# Altium schematic symbol library Standardbauteile (1).SchLib: 104 symbols
Pins are listed as number, name and electrical type; pins without a type are passive.

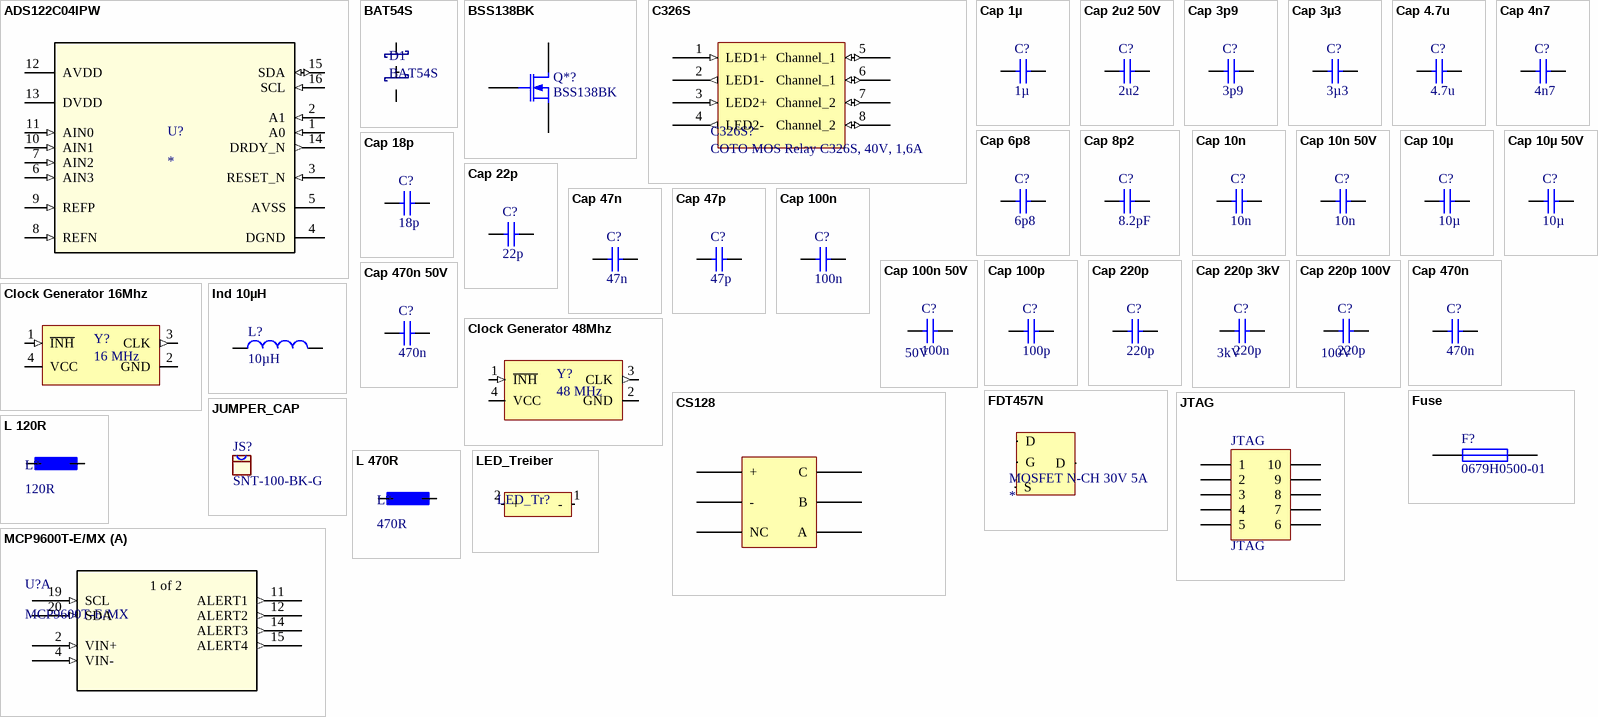
[diagram p0: symbols ADS122C04IPW to MCP9600T-E/MX]

## ADS122C04IPW
designator U?
No Description Available; PartNumber: ADS122C04IPWR; Manufacturer: Texas Instruments; RefDes: RefDes; Type: DEV; Value: Value; Copyright: Copyright (C) 2018 Accelerated Designs. All rights reserved
footprint ADS122C04
pins: 1 A0 (in), 2 A1 (in), 3 RESET_N (in), 4 DGND (power), 5 AVSS (power), 6 AIN3 (in), 7 AIN2 (in), 8 REFN (in), 9 REFP (in), 10 AIN1 (in), 11 AIN0 (in), 12 AVDD (power), 13 DVDD (power), 14 DRDY_N (out), 15 SDA (io), 16 SCL (in)

## BAT54S
designator D1
Farnell: 1612328
footprint SOT-23 3-Pin
pins: 1, 2, 3

## BSS138BK
designator Q*?
N-Channel; Manufacturer: Microchip; OC_FARNELL: 2053833; Supplier 1: Farnell; Supplier Part Number 1: 2053833
footprint SOT-23 3-Pin
pins: 1 G, 2 S, 3 D

## C326S
designator C326S?, comment COTO MOS Relay C326S, 40V, 1,6A
ComponentLink1Description: CotoMOS_Company; ComponentLink1URL: https://cotorelay.com/product/c226s_c326s_series_mosfetrelay/; ComponentLink2Description: Mouser; ComponentLink2URL: https://www.mouser.de/ProductDetail/Coto-Technology/C326S?qs=sGAEpiMZZMtF2lsQzIlof2iLd9el4552
footprint C326S (C326S CotoMos)
pins: 1 LED1+ (in), 2 LED1- (out), 3 LED2+ (in), 4 LED2- (out), 5 Channel_1 (io), 6 Channel_1 (io), 7 Channel_2 (io), 8 Channel_2 (io)

## Cap 1µ
designator C?, comment 1µ
Keramikvielschichtkondensator, SMD, Baureihe MC, ± 20%; Manufacturer: Multicomp; OC_FARNELL: 1759409; Value: 1µ; PackageReference: 0603
footprint CAPC0603(1608)55_N (Chip Capacitor, Body 1.6x0.8mm, Height 0.55mm, IPC Medium Density)
pins: 1, 2
1 alternate drawing of the same symbol

## Cap 2u2 50V
designator C?, comment 2u2
GRM21BR61H225KA73L -  Keramikvielschichtkondensator, SMD, 0805 [Metrisch 2012], 2.2 µF, 50 V, ± 10%, X5R, Baureihe GRM; Manufacturer: Murata; OC_FARNELL: 1845751; Value: 2u2; PackageReference: 0805
footprint CAPC0805(2012)75_N (Chip Capacitor, Body 2.0x1.2mm, Height 0.75mm, IPC Medium Density)
pins: 1, 2
1 alternate drawing of the same symbol

## Cap 3p9
designator C?, comment 3p9
Keramikvielschichtkondensator, SMD, Baureihe MC, ± 20%; Manufacturer: Multicomp; OC_FARNELL: 2332622; Value: 3p9; PackageReference: 0603
footprint CAPC0603(1608)55_N (Chip Capacitor, Body 1.6x0.8mm, Height 0.55mm, IPC Medium Density)
pins: 1, 2
1 alternate drawing of the same symbol

## Cap 3µ3
designator C?, comment 3µ3
Keramikvielschichtkondensator, SMD, Baureihe MC, ± 20%; Manufacturer: Multicomp; OC_FARNELL: 2320817; Value: 3µ3; PackageReference: 0603
footprint CAPC0603(1608)55_N (Chip Capacitor, Body 1.6x0.8mm, Height 0.55mm, IPC Medium Density)
pins: 1, 2
1 alternate drawing of the same symbol

## Cap 4.7u
designator C?, comment 4.7u
MULTICOMP  MC0603X475K100CT  Keramikvielschichtkondensator, SMD, 0603 [Metrisch 1608], 4.7 µF, 10 V, ± 10%, X5R, Baureihe MC; Manufacturer: Multicomp; OC_FARNELL: 2320818; Value: 4.7u; PackageReference: 0603
footprint CAPC0603(1608)55_N (Chip Capacitor, Body 1.6x0.8mm, Height 0.55mm, IPC Medium Density)
pins: 1, 2
1 alternate drawing of the same symbol

## Cap 4n7
designator C?, comment 4n7
Keramikvielschichtkondensator, SMD, Baureihe MC, ± 20%; Manufacturer: Multicomp; OC_FARNELL: 1759098; Value: 4n7; PackageReference: 0603
footprint CAPC0603(1608)55_N (Chip Capacitor, Body 1.6x0.8mm, Height 0.55mm, IPC Medium Density)
pins: 1, 2
1 alternate drawing of the same symbol

## Cap 6p8
designator C?, comment 6p8
Keramikvielschichtkondensator, SMD, Baureihe MC, ± 20%; Manufacturer: Multicomp; OC_FARNELL: 1856099; Value: 6p8; PackageReference: 0603
footprint CAPC0603(1608)55_N (Chip Capacitor, Body 1.6x0.8mm, Height 0.55mm, IPC Medium Density)
pins: 1, 2
1 alternate drawing of the same symbol

## Cap 8p2
designator C?, comment 8.2pF
Keramikvielschichtkondensator, SMD, Baureihe MC, ± 20%; Manufacturer: Murata; Mouser: 81-GCQ1555C1H8R2WB1D; Value: 8.2pF; PackageReference: 0603
footprint CAPC0603(1608)55_N (Chip Capacitor, Body 1.6x0.8mm, Height 0.55mm, IPC Medium Density)
pins: 1, 2
1 alternate drawing of the same symbol

## Cap 10n
designator C?, comment 10n
Keramikvielschichtkondensator, SMD, Baureihe MC, ± 20%; Manufacturer: Multicomp; OC_FARNELL: 1759022; Value: 10n; PackageReference: 0603
footprint CAPC0603(1608)55_N (Chip Capacitor, Body 1.6x0.8mm, Height 0.55mm, IPC Medium Density)
pins: 1, 2
1 alternate drawing of the same symbol

## Cap 10n 50V
designator C?, comment 10n
MC0603B103K500CT -  Keramikvielschichtkondensator, SMD, 0603 [Metrisch 1608], 0.01 µF, 50 V, ± 10%, X7R, Baureihe MC; Manufacturer: Multicomp; OC_FARNELL: 1759102; Value: 10n; PackageReference: 0603
footprint CAPC0603(1608)55_N (Chip Capacitor, Body 1.6x0.8mm, Height 0.55mm, IPC Medium Density)
pins: 1, 2
1 alternate drawing of the same symbol

## Cap 10µ
designator C?, comment 10µ
Keramikvielschichtkondensator, SMD, Baureihe MC, ± 20%; Manufacturer: Multicomp; OC_FARNELL: 1759393; Value: 10µ; PackageReference: 0603
footprint CAPC0603(1608)55_N (Chip Capacitor, Body 1.6x0.8mm, Height 0.55mm, IPC Medium Density)
pins: 1, 2
1 alternate drawing of the same symbol

## Cap 10µ 50V
designator C?, comment 10µ
GRM31CR61H106KA12L -  Keramikvielschichtkondensator, SMD, 1206 [Metrisch 3216], 10 µF, 50 V, ± 10%, X5R, Baureihe GRM; Manufacturer: Murata; OC_FARNELL: 1845762; Value: 10µ; PackageReference: 1206
footprint CAPC1206(3216)170_N (Chip Capacitor, Body 3.2x1.6mm, Height 1.7mm, IPC Medium Density)
pins: 1, 2
1 alternate drawing of the same symbol

## Cap 18p
designator C?, comment 18p
Keramikvielschichtkondensator, SMD, Baureihe MC, ± 20%; Manufacturer: Multicomp; OC_FARNELL: 1759056; Value: 18p; PackageReference: 0603
footprint CAPC0603(1608)55_N (Chip Capacitor, Body 1.6x0.8mm, Height 0.55mm, IPC Medium Density)
pins: 1, 2
1 alternate drawing of the same symbol

## Cap 22p
designator C?, comment 22p
Keramikvielschichtkondensator, SMD, Baureihe MC, ± 20%; Manufacturer: Multicomp; OC_FARNELL: 2309012; Value: 22p; PackageReference: 0603
footprint CAPC0603(1608)55_N (Chip Capacitor, Body 1.6x0.8mm, Height 0.55mm, IPC Medium Density)
pins: 1, 2
1 alternate drawing of the same symbol

## Cap 47n
designator C?, comment 47n
Keramikvielschichtkondensator, SMD, Baureihe MC, ± 20%; Manufacturer: Multicomp; OC_FARNELL: 1759116; Value: 47n; PackageReference: 0603
footprint CAPC0603(1608)55_N (Chip Capacitor, Body 1.6x0.8mm, Height 0.55mm, IPC Medium Density)
pins: 1, 2
1 alternate drawing of the same symbol

## Cap 47p
designator C?, comment 47p
Keramikvielschichtkondensator, SMD, Baureihe MC, ± 20%; Manufacturer: Multicomp; OC_FARNELL: 1759062; Value: 47p; PackageReference: 0603
footprint CAPC0603(1608)55_N (Chip Capacitor, Body 1.6x0.8mm, Height 0.55mm, IPC Medium Density)
pins: 1, 2
1 alternate drawing of the same symbol

## Cap 100n
designator C?, comment 100n
Keramikvielschichtkondensator, SMD, Baureihe MC, ± 20%; Manufacturer: Multicomp; OC_FARNELL: 1759038; Value: 100n; PackageReference: 0603
footprint CAPC0603(1608)55_N (Chip Capacitor, Body 1.6x0.8mm, Height 0.55mm, IPC Medium Density)
pins: 1, 2
1 alternate drawing of the same symbol

## Cap 100n 50V
designator C?, comment 100n  Voltage: 50V
Keramikvielschichtkondensator, SMD, Baureihe MC, ± 20%; Manufacturer: Multicomp; OC_FARNELL: 1759122; Value: 100n; PackageReference: 0603
footprint CAPC0603(1608)55_N (Chip Capacitor, Body 1.6x0.8mm, Height 0.55mm, IPC Medium Density)
pins: 1, 2
1 alternate drawing of the same symbol

## Cap 100p
designator C?, comment 100p
Keramikvielschichtkondensator, SMD, Baureihe MC, ± 20%; Manufacturer: Multicomp; OC_FARNELL: 1759066; Value: 100p; PackageReference: 0603
footprint CAPC0603(1608)55_N (Chip Capacitor, Body 1.6x0.8mm, Height 0.55mm, IPC Medium Density)
pins: 1, 2
1 alternate drawing of the same symbol

## Cap 220p
designator C?, comment 220p
Keramikvielschichtkondensator, SMD, Baureihe MC, ± 20%; Manufacturer: Multicomp; OC_FARNELL: 1759070; Value: 220p; PackageReference: 0603
footprint CAPC0603(1608)55_N (Chip Capacitor, Body 1.6x0.8mm, Height 0.55mm, IPC Medium Density)
pins: 1, 2
1 alternate drawing of the same symbol

## Cap 220p 3kV
designator C?, comment 220p  Voltage: 3kV
C4532C0G3F221K200KA -  Keramikvielschichtkondensator, SMD, 1812 [Metrisch 4532], 220 pF, 3 kV, ± 10%, C0G / NP0; Manufacturer: TDK; OC_FARNELL: C4532C0G3F221K200KA -  Keramikvielschichtkondensator, SMD, 1812 [Metrisch 4532], 220 pF, 3 kV, ± 10%, C0G / NP0; Value: 220p; PackageReference: 1812
footprint RESC1812(4532)_N (Chip Resistor, Body 4.5x3.2mm, IPC Medium Density)
pins: 1, 2
1 alternate drawing of the same symbol

## Cap 220p 100V
designator C?, comment 220p  Voltage: 100V
Keramikvielschichtkondensator, SMD, Baureihe MC, ± 20%; Manufacturer: Multicomp; OC_FARNELL: 1759131; Value: 220p; PackageReference: 0603
footprint CAPC0603(1608)55_N (Chip Capacitor, Body 1.6x0.8mm, Height 0.55mm, IPC Medium Density)
pins: 1, 2
1 alternate drawing of the same symbol

## Cap 470n
designator C?, comment 470n
Keramikvielschichtkondensator, SMD, Baureihe MC, ± 20%; Manufacturer: Multicomp; OC_FARNELL: 1759405; Value: 470n; PackageReference: 0603
footprint CAPC0603(1608)55_N (Chip Capacitor, Body 1.6x0.8mm, Height 0.55mm, IPC Medium Density)
pins: 1, 2
1 alternate drawing of the same symbol

## Cap 470n 50V
designator C?, comment 470n
MC0805B474K500CT -  Keramikvielschichtkondensator, SMD, 0805 [Metrisch 2012], 0.47 µF, 50 V, ± 10%, X7R, Baureihe MC; Manufacturer: Multicomp; OC_FARNELL: 2320847; Value: 470n; PackageReference: 0805
footprint CAPC0805(2012)75_N (Chip Capacitor, Body 2.0x1.2mm, Height 0.75mm, IPC Medium Density)
pins: 1, 2
1 alternate drawing of the same symbol

## Clock Generator 16Mhz
designator Y?, comment 16 MHz
KC5032A16.0000CM0E00  Clock-Standardoszillatoren 16.0000MHZ 1.8/2.5/3.3/5V; OC_Mouser: 581-KC5032A48.CMGE; ComponentLink1Description: Mouser; ComponentLink1URL: https://www.mouser.de/ProductDetail/Kyocera-Electronic-Components/KC5032A160000CM0E00?qs=sGAEpiMZZMt8zWNA7msRCk7Aw7TtSSRkg6%252bP7KN1ykU%3d
footprint 2012 [5032] (4-Pad Oscillator)
pins: 1 ~{INH} (in), 2 GND (power), 3 CLK (out), 4 VCC (power)

## Clock Generator 48Mhz
designator Y?, comment 48 MHz
KC5032A48.0000CMGE00 Clock-Standardoszillatoren 48.0000MHZ 1.8/2.5/3.3/5V; OC_Mouser: 581-KC5032A48.CMGE; ComponentLink1Description: Mouser; ComponentLink1URL: https://www.mouser.de/ProductDetail/Kyocera-Electronic-Components/KC5032A480000CMGE00?qs=sGAEpiMZZMt8zWNA7msRCrRuiPJbmrePLb5CHgCNDxV1n%2flQRhhCGg%3d%3d
footprint 2012 [5032] (4-Pad Oscillator)
pins: 1 ~{INH} (in), 2 GND (power), 3 CLK (out), 4 VCC (power)

## CS128
designator K?, comment 40V 4.5A
Solid State Relays - PCB Mount PCB Mount 500mW 40v 4.5A 1FRM A SMD 6Pin; LatestRevisionDate: 17-Jul-2002; LatestRevisionNote: Re-released for DXP Platform.; Publisher: Altium Limited; OC_Mouser: 816-CS128
footprint CS128 SMD (Footprint not found)
signal-integrity model Connector
pins: 1 +, 2 -, 3 NC, 4 A, 5 B, 6 C

## FDT457N
designator MOSFET N-CH 30V 5A
MOSFET N-CH 30V 5A SOT-223
footprint NXP SOT-223 (SOT223, 4-Leads, Body 6.50x7.00mm (avg), Pitch 2.30mm, IPC Medium Density)
pins: 1 G , 2 D, 3 S, 4 D

## Fuse
designator F?, comment 0679H0500-01
500mA 350 VAC 72 VCD; Hersteller: Bel; Produkt: Surface Mount Ceramic Fuse; Sicherungsart: Fast Blow; Nennspannung AC: 350 VAC; Nennspannung DC:: 72 VDC; Unterbrechungsrate: 50 A at 350 VAC, 100 A at 72 VDC; Länge: 6.1000 mm; Betriebstemperaturbereich: - 55 C to + 125 C; Widerstand:: 240 mOhms; Typ: Fast Acting Ceramic Fuse; Breite: 2.5400 mm; Nennstrom: 500mA; Datasheet: http://www.mouser.com/ds/2/643/0679H_Jan_2017-1131342.pdf
simulation model FUSE (Spice Subcircuit)
footprint fuse (Sicherungen zur Aufbaumontage 500mA 350 VAC 72 VCD)
pins: 1, 2

## Ind 10µH
designator L?, comment 10µH
Leistungsinduktivität zur Oberflächenm., Baureihe WE-LQ, 10 µH, 320 mA, 850 mA, Ungeschirmt; Manufacturer: WURTH ELEKTRONIK; Series Resistance: 0.65R; PackageReference: 0402-A; PackageDescription: Chip Inductor; OC_Farnell: 1800387; Value: 10µH
footprint 0603 (Chip Inductor, Body 0.6x0.3mm, IPC High Density)
simulation model INDUCTOR (Inductor)
signal-integrity model Inductor
pins: 1, 2

## JTAG
designator JTAG
Header, 5-Pin, Dual row; LatestRevisionDate: 17-Jul-2002; LatestRevisionNote: Re-released for DXP Platform.; Publisher: Altium Limited
signal-integrity model Connector
footprint M50-3600542
pins: 1, 2, 3, 4, 5, 6, 7, 8, 9, 10

## JUMPER_CAP
designator JS?  value SNT-100-BK-G
Jumper cap for 2.54mm pinheader; PartGroup: Mechanical devices,Mounting accessories,Other; Manufacturer: SAMTEC; AN: A08-0543; MPN: SNT-100-BK-G
footprint AP8-00525

## L 120R
designator L?, comment 120R
Ferrite Perle; Manufacturer: Murata; PackageReference: 0603; OC_FARNELL: 1515738; Value: 120R
footprint CAPC0603(1608)55_N (Chip Capacitor, Body 1.6x0.8mm, Height 0.55mm, IPC Medium Density)
pins: 1, 2
1 alternate drawing of the same symbol

## L 470R
designator L?, comment 470R
Ferrite Perle; Manufacturer: Murata; PackageReference: 0603; OC_FARNELL: 1515745; Value: 470R
footprint CAPC0603(1608)55_N (Chip Capacitor, Body 1.6x0.8mm, Height 0.55mm, IPC Medium Density)
pins: 1, 2
1 alternate drawing of the same symbol

## LED_Treiber
designator LED_Tr?
LED_Treiber for 20mA and 30mA; ComponentLink1Description: Farnell_20mA; ComponentLink1URL: https://de.farnell.com/on-semiconductor/nsi45020t1g/led-treiber-sod-123/dp/2535067?st=NSI450; ComponentLink2Description: Farnell_30mA; ComponentLink2URL: https://de.farnell.com/on-semiconductor/nsi45030at1g/led-treiber-45v-0-03a-sod123/dp/1794976?st=NSI450
footprint SOD-123
pins: 1 -, 2 +

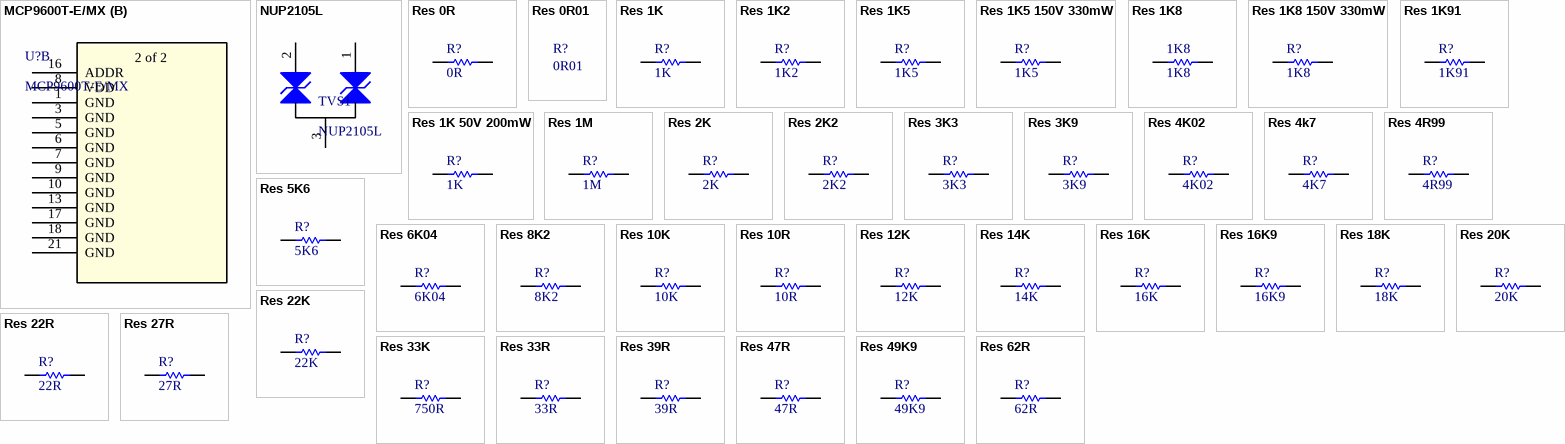
[diagram p1: symbols MCP9600T-E/MX to Res 62R]

## MCP9600T-E/MX
designator U?
No Description Available; SourceLibrary: Microchip_2020-07-10; Built_By: EMA_Cory; Vendor: Microchip; Datasheet: https://ww1.microchip.com/downloads/en/DeviceDoc/MCP960X-L0X-RL0X-Data-Sheet-20005426F.pdf; Copyright: Copyright (C) 2018 Accelerated Designs. All rights reserved; Manufacturer_Part_Number: MCP9600T-E/MX; RefDes: RefDes; Type: DEV
footprint MCP9600
part A pins: 2 VIN+ (in), 4 VIN- (in), 11 ALERT1 (out), 12 ALERT2 (out), 14 ALERT3 (out), 15 ALERT4 (out), 19 SCL (in), 20 SDA (in)
part B pins: 1 GND, 3 GND, 5 GND, 6 GND, 7 GND, 8 VDD (power), 9 GND, 10 GND, 13 GND, 16 ADDR (power), 17 GND, 18 GND, 21 GND
part A text: 1 of 2
part B text: 2 of 2

## NUP2105L
designator TVS1
Dual Bidirectional Voltage Suppressor 350W Peak
footprint SOT-23 3-Pin
pins: 1 A1, 2 A2, 3 A3

## Res 0R
designator R?, comment 0R
Chipwiderstand, SMD, Baureihe MC, 1%; Manufacturer: Multicomp; PackageReference: 0603; Value: 0R; OC_FARNELL: 9331662
footprint RESC0603(1608)_N (Chip Resistor, Body 1.6x0.8mm, IPC Medium Density)
pins: 1, 2
1 alternate drawing of the same symbol

## Res 0R01
designator R?, comment 0R01
Chipwiderstand, Oberflächenmontage, Dickschicht, 0.01 ohm, 50 V, 0603 [Metrisch 1608], 100 mW, ± 1%; Manufacturer: YAEGO; PackageReference: 0603; OC_Farnell: 8067767; Value: 0R01
footprint RESC0603(1608)_N (Chip Resistor, Body 1.6x0.8mm, IPC Medium Density)

## Res 1K
designator R?, comment 1K
Chipwiderstand, SMD, Baureihe MC, 1%; Manufacturer: Multicomp; PackageReference: 0603; Value: 1K; OC_FARNELL: 9330380
footprint RESC0603(1608)_N (Chip Resistor, Body 1.6x0.8mm, IPC Medium Density)
pins: 1, 2
1 alternate drawing of the same symbol

## Res 1K2
designator R?, comment 1K2
Chipwiderstand, SMD, Baureihe MC, 1%; Manufacturer: Multicomp; PackageReference: 0603; Value: 1K2; OC_FARNELL: 9330500
footprint RESC0603(1608)_N (Chip Resistor, Body 1.6x0.8mm, IPC Medium Density)
pins: 1, 2
1 alternate drawing of the same symbol

## Res 1K5
designator R?, comment 1K5
Chipwiderstand, SMD, Baureihe MC, 1%; Manufacturer: Multicomp; PackageReference: 0603; Value: 1K5; OC_FARNELL: 9330607
footprint RESC0603(1608)_N (Chip Resistor, Body 1.6x0.8mm, IPC Medium Density)
pins: 1, 2
1 alternate drawing of the same symbol

## Res 1K5 150V 330mW
designator R?, comment 1K5
CRGH0603F1K5 -  Chipwiderstand,  CRGH0805J1K5 -  Chipwiderstand, Oberflächenmontage, Dickschicht, 1.5 kohm, 150 V, 0805 [Metrisch 2012], 330 mW; Manufacturer: TE Connectivity; PackageReference: 0805; Value: 1K5; OC_FARNELL: 2331798
footprint RESC0805(2012)_N (Chip Resistor, Body 2.0x1.3mm, IPC Medium Density)
pins: 1, 2
1 alternate drawing of the same symbol

## Res 1K8
designator 1K8, comment 1K8
Chipwiderstand, SMD, Baureihe MC, 1%; Manufacturer: Multicomp; PackageReference: 0603; Value: 1K8; OC_FARNELL: 9330712
footprint RESC0603(1608)_N (Chip Resistor, Body 1.6x0.8mm, IPC Medium Density)
pins: 1, 2
1 alternate drawing of the same symbol

## Res 1K8 150V 330mW
designator R?, comment 1K8
CRGH0805J1K8 -  Chipwiderstand, Oberflächenmontage, Dickschicht, 1.8 kohm, 150 V, 0805 [Metrisch 2012], 330 mW; Manufacturer: TE Connectivity; PackageReference: 0805; Value: 1K8; OC_FARNELL: 2331799
footprint RESC0805(2012)_N (Chip Resistor, Body 2.0x1.3mm, IPC Medium Density)
pins: 1, 2
1 alternate drawing of the same symbol

## Res 1K91
designator R?, comment 1K91
ERJ3EKF1911V -  Chipwiderstand, Oberflächenmontage, Dickschicht, 1.91 kohm, 75 V, 0603 [Metrisch 1608], 100 mW; Manufacturer: Panasonic; PackageReference: 0603; Value: 1K91; OC_FARNELL: 2303163
footprint RESC0603(1608)_N (Chip Resistor, Body 1.6x0.8mm, IPC Medium Density)
pins: 1, 2
1 alternate drawing of the same symbol

## Res 1K 50V 200mW
designator R?, comment 1K
CRGH0603J1K0 -  Chipwiderstand, Oberflächenmontage, Dickschicht, 1 kohm, 50 V, 0603 [Metrisch 1608], 200 mW, ± 5%; Manufacturer: TE Connectivity; PackageReference: 0603; Value: 1K; OC_FARNELL: 2331727
footprint RESC0603(1608)_N (Chip Resistor, Body 1.6x0.8mm, IPC Medium Density)
pins: 1, 2
1 alternate drawing of the same symbol

## Res 1M
designator R?, comment 1M
Chipwiderstand, SMD, Baureihe MC, 1%; Manufacturer: Multicomp; PackageReference: 0603; Value: 1M; OC_FARNELL: 9330410
footprint RESC0603(1608)_N (Chip Resistor, Body 1.6x0.8mm, IPC Medium Density)
pins: 1, 2
1 alternate drawing of the same symbol

## Res 2K
designator R?, comment 2K
Chipwiderstand, SMD, Baureihe MC, 1%; Manufacturer: Multicomp; PackageReference: 0603; Value: 2K; OC_FARNELL: 9330763
footprint RESC0603(1608)_N (Chip Resistor, Body 1.6x0.8mm, IPC Medium Density)
pins: 1, 2
1 alternate drawing of the same symbol

## Res 2K2
designator R?, comment 2K2
Chipwiderstand, SMD, Baureihe MC, 1%; Manufacturer: Multicomp; PackageReference: 0603; Value: 2K2; OC_FARNELL: 9330810
footprint RESC0603(1608)_N (Chip Resistor, Body 1.6x0.8mm, IPC Medium Density)
pins: 1, 2
1 alternate drawing of the same symbol

## Res 3K3
designator R?, comment 3K3
Chipwiderstand, SMD, Baureihe MC, 1%; Manufacturer: Multicomp; PackageReference: 0603; Value: 3K3; OC_FARNELL: 9331026
footprint RESC0603(1608)_N (Chip Resistor, Body 1.6x0.8mm, IPC Medium Density)
pins: 1, 2
1 alternate drawing of the same symbol

## Res 3K9
designator R?, comment 3K9
Chipwiderstand, SMD, Baureihe MC, 1%; Manufacturer: Multicomp; PackageReference: 0603; Value: 3K9; OC_FARNELL: 9331140
footprint RESC0603(1608)_N (Chip Resistor, Body 1.6x0.8mm, IPC Medium Density)
pins: 1, 2
1 alternate drawing of the same symbol

## Res 4K02
designator R?, comment 4K02
Chipwiderstand, SMD, Baureihe MC, 1%; Manufacturer: Multicomp; PackageReference: 0603; Value: 4K02; OC_FARNELL: 1170849
footprint RESC0603(1608)_N (Chip Resistor, Body 1.6x0.8mm, IPC Medium Density)
pins: 1, 2
1 alternate drawing of the same symbol

## Res 4k7
designator R?, comment 4K7
Chipwiderstand, SMD, Baureihe MC, 5%; Manufacturer: Multicomp; PackageReference: 0603; Value: 4K7; OC_FARNELL: 9332154
footprint RESC0603(1608)_N (Chip Resistor, Body 1.6x0.8mm, IPC Medium Density)
pins: 1, 2
1 alternate drawing of the same symbol

## Res 4R99
designator R?, comment 4R99
Chipwiderstand, SMD, Baureihe MC, 1%; Manufacturer: TE; PackageReference: 0603; Value: 4R99; OC_FARNELL: 1527213
footprint RESC0603(1608)_N (Chip Resistor, Body 1.6x0.8mm, IPC Medium Density)
pins: 1, 2
1 alternate drawing of the same symbol

## Res 5K6
designator R?, comment 5K6
Chipwiderstand, SMD, Baureihe MC, 5%; Manufacturer: Multicomp; PackageReference: 0603; Value: 5K6; OC_FARNELL: 9332219
footprint RESC0603(1608)_N (Chip Resistor, Body 1.6x0.8mm, IPC Medium Density)
pins: 1, 2
1 alternate drawing of the same symbol

## Res 6K04
designator R?, comment 6K04
Chipwiderstand, SMD, Baureihe MC, 1%; Manufacturer: Multicomp; PackageReference: 0603; Value: 6K04; OC_FARNELL: 1170868
footprint RESC0603(1608)_N (Chip Resistor, Body 1.6x0.8mm, IPC Medium Density)
pins: 1, 2
1 alternate drawing of the same symbol

## Res 8K2
designator R?, comment 8K2
Chipwiderstand, SMD, Baureihe MC, 1%; Manufacturer: Multicomp; PackageReference: 0603; Value: 8K2; OC_FARNELL: 9331565
footprint RESC0603(1608)_N (Chip Resistor, Body 1.6x0.8mm, IPC Medium Density)
pins: 1, 2
1 alternate drawing of the same symbol

## Res 10K
designator R?, comment 10K
Chipwiderstand, SMD, Baureihe MC, 1%; Manufacturer: Multicomp; PackageReference: 0603; Value: 10K; OC_FARNELL: 9330399
footprint RESC0603(1608)_N (Chip Resistor, Body 1.6x0.8mm, IPC Medium Density)
pins: 1, 2
1 alternate drawing of the same symbol

## Res 10R
designator R?, comment 10R
Chipwiderstand, SMD, Baureihe MC, 1%; Manufacturer: Multicomp; PackageReference: 0603; Value: 10R; OC_FARNELL: 9330429
footprint RESC0603(1608)_N (Chip Resistor, Body 1.6x0.8mm, IPC Medium Density)
pins: 1, 2
1 alternate drawing of the same symbol

## Res 12K
designator R?, comment 12K
Chipwiderstand, SMD, Baureihe MC, 1%; Manufacturer: Multicomp; PackageReference: 0603; Value: 12K; OC_FARNELL: 9330518
footprint RESC0603(1608)_N (Chip Resistor, Body 1.6x0.8mm, IPC Medium Density)
pins: 1, 2
1 alternate drawing of the same symbol

## Res 14K
designator R?, comment 14K
Chipwiderstand, SMD, Baureihe MC, 1%; Manufacturer: Multicomp; PackageReference: 0603; Value: 14K; OC_FARNELL: 1170901
footprint RESC0603(1608)_N (Chip Resistor, Body 1.6x0.8mm, IPC Medium Density)
pins: 1, 2
1 alternate drawing of the same symbol

## Res 16K
designator R?, comment 16K
Chipwiderstand, SMD, Baureihe MC, 1%; Manufacturer: Multicomp; PackageReference: 0603; Value: 16K; OC_FARNELL: 2447261
footprint RESC0603(1608)_N (Chip Resistor, Body 1.6x0.8mm, IPC Medium Density)
pins: 1, 2
1 alternate drawing of the same symbol

## Res 16K9
designator R?, comment 16K9
Chipwiderstand, SMD, Baureihe MC, 1%; Manufacturer: Multicomp; PackageReference: 0603; Value: 16K9; OC_FARNELL: 1170908
footprint RESC0603(1608)_N (Chip Resistor, Body 1.6x0.8mm, IPC Medium Density)
pins: 1, 2
1 alternate drawing of the same symbol

## Res 18K
designator R?, comment 18K
Chipwiderstand, SMD, Baureihe MC, 1%; Manufacturer: Multicomp; PackageReference: 0603; Value: 18K; OC_FARNELL: 2447269
footprint RESC0603(1608)_N (Chip Resistor, Body 1.6x0.8mm, IPC Medium Density)
pins: 1, 2
1 alternate drawing of the same symbol

## Res 20K
designator R?, comment 20K
Chipwiderstand, SMD, Baureihe MC, 1%; Manufacturer: Multicomp; PackageReference: 0603; Value: 20K; OC_FARNELL: 2447293
footprint RESC0603(1608)_N (Chip Resistor, Body 1.6x0.8mm, IPC Medium Density)
pins: 1, 2
1 alternate drawing of the same symbol

## Res 22K
designator R?, comment 22K
Chipwiderstand, SMD, Baureihe MC, 1%; Manufacturer: Multicomp; PackageReference: 0603; Value: 22K; OC_FARNELL: 2447299
footprint RESC0603(1608)_N (Chip Resistor, Body 1.6x0.8mm, IPC Medium Density)
pins: 1, 2
1 alternate drawing of the same symbol

## Res 22R
designator R?, comment 22R
Chipwiderstand, SMD, Baureihe MC, 1%; Manufacturer: Multicomp; PackageReference: 0603; Value: 22R; OC_FARNELL: 9331891
footprint RESC0603(1608)_N (Chip Resistor, Body 1.6x0.8mm, IPC Medium Density)
pins: 1, 2
1 alternate drawing of the same symbol

## Res 27R
designator R?, comment 27R
Chipwiderstand, Oberflächenmontage, Dickschicht, 27 ohm, 50 V, 0603 [Metrisch 1608], 100 mW, ± 1%; Manufacturer: Multicomp; PackageReference: 0603; Value: 27R; OC_FARNELL: 2447316
footprint RESC0603(1608)_N (Chip Resistor, Body 1.6x0.8mm, IPC Medium Density)
pins: 1, 2
1 alternate drawing of the same symbol

## Res 33K
designator R?, comment 750R
Chipwiderstand, SMD, Baureihe MC, 1%; Manufacturer: Multicomp; PackageReference: 0603; Value: 750R; OC_FARNELL: 9331506
footprint RESC0603(1608)_N (Chip Resistor, Body 1.6x0.8mm, IPC Medium Density)
pins: 1, 2
1 alternate drawing of the same symbol

## Res 33R
designator R?, comment 33R
Chipwiderstand, SMD, Baureihe MC, 1%; Manufacturer: Multicomp; PackageReference: 0603; Value: 33R; OC_FARNELL: 9331050
footprint RESC0603(1608)_N (Chip Resistor, Body 1.6x0.8mm, IPC Medium Density)
pins: 1, 2
1 alternate drawing of the same symbol

## Res 39R
designator R?, comment 39R
Chipwiderstand, SMD, Baureihe MC, 1%; Manufacturer: Multicomp; PackageReference: 0603; Value: 39R; OC_FARNELL: 9331174
footprint RESC0603(1608)_N (Chip Resistor, Body 1.6x0.8mm, IPC Medium Density)
pins: 1, 2
1 alternate drawing of the same symbol

## Res 47R
designator R?, comment 47R
Chipwiderstand, SMD, Baureihe MC, 1%; Manufacturer: Multicomp; PackageReference: 0603; Value: 47R; OC_FARNELL: 1576259
footprint RESC0603(1608)_N (Chip Resistor, Body 1.6x0.8mm, IPC Medium Density)
pins: 1, 2
1 alternate drawing of the same symbol

## Res 49K9
designator R?, comment 49K9
Chipwiderstand, SMD, Baureihe MC, 1%; Manufacturer: Multicomp; PackageReference: 0603; Value: 49K9; OC_FARNELL: 1170955
footprint RESC0603(1608)_N (Chip Resistor, Body 1.6x0.8mm, IPC Medium Density)
pins: 1, 2
1 alternate drawing of the same symbol

## Res 62R
designator R?, comment 62R
Chipwiderstand, SMD, Baureihe MC, 1%; Manufacturer: Multicomp; PackageReference: 0603; Value: 62R; OC_FARNELL: 9331433
footprint RESC0603(1608)_N (Chip Resistor, Body 1.6x0.8mm, IPC Medium Density)
pins: 1, 2
1 alternate drawing of the same symbol

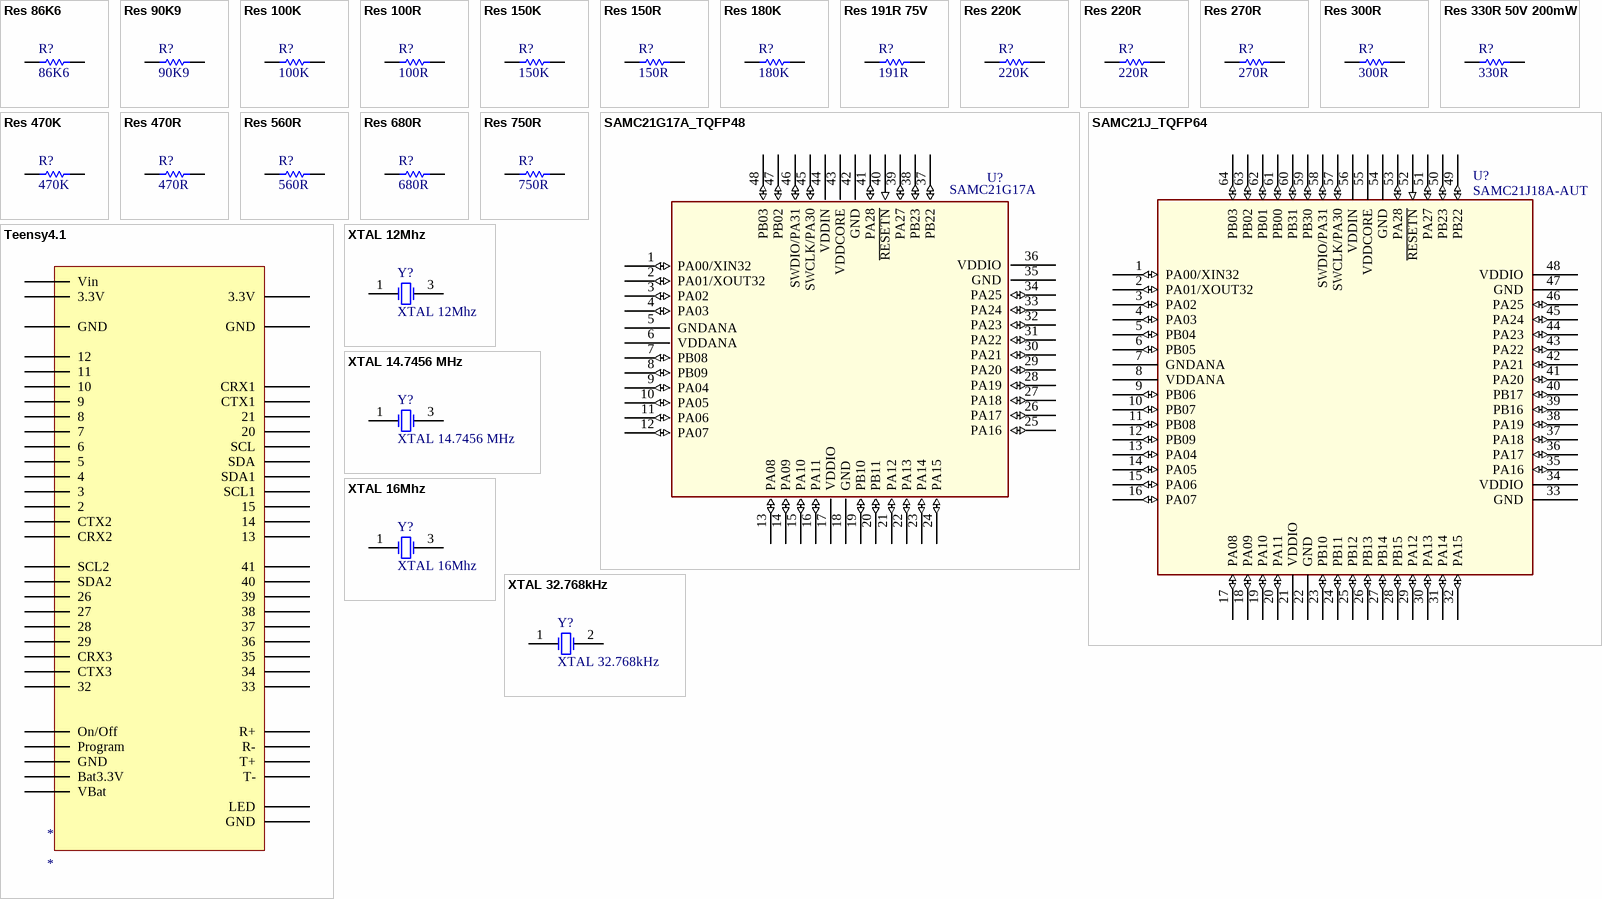
[diagram p2: symbols Res 86K6 to XTAL 32.768kHz]

## Res 86K6
designator R?, comment 86K6
Chipwiderstand, SMD, Baureihe MC, 1%; Manufacturer: Multicomp; PackageReference: 0603; Value: 86K6; OC_FARNELL: 1170980
footprint RESC0603(1608)_N (Chip Resistor, Body 1.6x0.8mm, IPC Medium Density)
pins: 1, 2
1 alternate drawing of the same symbol

## Res 90K9
designator R?, comment 90K9
Chipwiderstand, SMD, Baureihe MC, 1%; Manufacturer: Multicomp; PackageReference: 0603; Value: 90K9; OC_FARNELL: 1170982
footprint RESC0603(1608)_N (Chip Resistor, Body 1.6x0.8mm, IPC Medium Density)
pins: 1, 2
1 alternate drawing of the same symbol

## Res 100K
designator R?, comment 100K
Chipwiderstand, SMD, Baureihe MC, 1%; Manufacturer: Multicomp; PackageReference: 0603; Value: 100K; OC_FARNELL: 9330402
footprint RESC0603(1608)_N (Chip Resistor, Body 1.6x0.8mm, IPC Medium Density)
pins: 1, 2
1 alternate drawing of the same symbol

## Res 100R
designator R?, comment 100R
Chipwiderstand, SMD, Baureihe MC, 1%; Manufacturer: Multicomp; PackageReference: 0603; Value: 100R; OC_FARNELL: 2447227
footprint RESC0603(1608)_N (Chip Resistor, Body 1.6x0.8mm, IPC Medium Density)
pins: 1, 2
1 alternate drawing of the same symbol

## Res 150K
designator R?, comment 150K
Chipwiderstand, SMD, Baureihe MC, 1%; Manufacturer: Multicomp; PackageReference: 0603; Value: 150K; OC_FARNELL: 9331824
footprint RESC0603(1608)_N (Chip Resistor, Body 1.6x0.8mm, IPC Medium Density)
pins: 1, 2
1 alternate drawing of the same symbol

## Res 150R
designator R?, comment 150R
MULTICOMP  MCWR06X1500FTL  Chipwiderstand, Oberflächenmontage, Dickschicht, 150 ohm, 50 V, 0603 [Metrisch 1608], 100 mW, ± 1%; Manufacturer: Multicomp; PackageReference: 0603; Value: 150R; OC_FARNELL: 2447255
footprint RESC0603(1608)_N (Chip Resistor, Body 1.6x0.8mm, IPC Medium Density)
pins: 1, 2
1 alternate drawing of the same symbol

## Res 180K
designator R?, comment 180K
Chipwiderstand, SMD, Baureihe MC, 1%; Manufacturer: Multicomp; PackageReference: 0603; Value: 180K; OC_FARNELL: 9330402
footprint RESC0603(1608)_N (Chip Resistor, Body 1.6x0.8mm, IPC Medium Density)
pins: 1, 2
1 alternate drawing of the same symbol

## Res 191R 75V
designator R?, comment 191R
ERJ3EKF1910V -  Chipwiderstand, Oberflächenmontage, Dickschicht, 191 ohm, 75 V, 0603 [Metrisch 1608], 100 mW, ± 1%; Manufacturer: Panasonic; PackageReference: 0603; Value: 191R; OC_FARNELL: 2303087
footprint RESC0603(1608)_N (Chip Resistor, Body 1.6x0.8mm, IPC Medium Density)
pins: 1, 2
1 alternate drawing of the same symbol

## Res 220K
designator R?, comment 220K
Chipwiderstand, SMD, Baureihe MC, 1%; Manufacturer: Multicomp; PackageReference: 0603; Value: 220K; OC_FARNELL: 9330836
footprint RESC0603(1608)_N (Chip Resistor, Body 1.6x0.8mm, IPC Medium Density)
pins: 1, 2
1 alternate drawing of the same symbol

## Res 220R
designator R?, comment 220R
Chipwiderstand, SMD, Baureihe MC, 1%; Manufacturer: Multicomp; PackageReference: 0603; Value: 220R; OC_FARNELL: 9330801
footprint RESC0603(1608)_N (Chip Resistor, Body 1.6x0.8mm, IPC Medium Density)
pins: 1, 2
1 alternate drawing of the same symbol

## Res 270R
designator R?, comment 270R
Chipwiderstand, SMD, Baureihe MC, 1%; Manufacturer: Multicomp; PackageReference: 0603; Value: 270R; OC_FARNELL: 9330917
footprint RESC0603(1608)_N (Chip Resistor, Body 1.6x0.8mm, IPC Medium Density)
pins: 1, 2
1 alternate drawing of the same symbol

## Res 300R
designator R?, comment 300R
ERJ3EKF3000V -  Chipwiderstand, Oberflächenmontage, Dickschicht, 300 ohm, 75 V, 0603 [Metrisch 1608], 100 mW, ± 1%; Manufacturer: Panasonic; PackageReference: 0603; Value: 300R; OC_FARNELL: 2059303
footprint RESC0603(1608)_N (Chip Resistor, Body 1.6x0.8mm, IPC Medium Density)
pins: 1, 2
1 alternate drawing of the same symbol

## Res 330R 50V 200mW
designator R?, comment 330R
CRGH0603F330R -  Chipwiderstand, Oberflächenmontage, Dickschicht, 330 ohm, 50 V, 0603 [Metrisch 1608], 200 mW, ± 1% kohm, 50 V, 0603 [Metrisch 1608], 200 mW, ± 1%; Manufacturer: TE Connectivity; PackageReference: 0603; Value: 330R; OC_FARNELL: 2331995
footprint RESC0603(1608)_N (Chip Resistor, Body 1.6x0.8mm, IPC Medium Density)
pins: 1, 2
1 alternate drawing of the same symbol

## Res 470K
designator R?, comment 470K
Chipwiderstand, SMD, Baureihe MC, 1%; Manufacturer: Multicomp; PackageReference: 0603; Value: 470K; OC_FARNELL: 9331263
footprint RESC0603(1608)_N (Chip Resistor, Body 1.6x0.8mm, IPC Medium Density)
pins: 1, 2
1 alternate drawing of the same symbol

## Res 470R
designator R?, comment 470R
Chipwiderstand, SMD, Baureihe MC, 1%; Manufacturer: Multicomp; PackageReference: 0603; Value: 470R; OC_FARNELL: 9331239
footprint RESC0603(1608)_N (Chip Resistor, Body 1.6x0.8mm, IPC Medium Density)
pins: 1, 2
1 alternate drawing of the same symbol

## Res 560R
designator R?, comment 560R
Chipwiderstand, SMD, Baureihe MC, 1%; Manufacturer: Multicomp; PackageReference: 0603; Value: 560R; OC_FARNELL: 9331344
footprint RESC0603(1608)_N (Chip Resistor, Body 1.6x0.8mm, IPC Medium Density)
pins: 1, 2
1 alternate drawing of the same symbol

## Res 680R
designator R?, comment 680R
Chipwiderstand, SMD, Baureihe MC, 1%; Manufacturer: Multicomp; PackageReference: 0603; Value: 680R; OC_FARNELL: 9331344
footprint RESC0603(1608)_N (Chip Resistor, Body 1.6x0.8mm, IPC Medium Density)
pins: 1, 2
1 alternate drawing of the same symbol

## Res 750R
designator R?, comment 750R
Chipwiderstand, SMD, Baureihe MC, 1%; Manufacturer: Multicomp; PackageReference: 0603; Value: 750R; OC_FARNELL: 9331506
footprint RESC0603(1608)_N (Chip Resistor, Body 1.6x0.8mm, IPC Medium Density)
pins: 1, 2
1 alternate drawing of the same symbol

## SAMC21G17A_TQFP48
designator U?, comment value SAMC21G17A  (hidden comment: ATSAMC21G17A_TQFP48)
Atmel 32-bit RISC MCU 48pin; PartGroup: Integrated Circuits,MCU, MPU, DSP,ARM MCU; MPN: SAMC21J18A-AUT; AN: A06-1192; TemperatureRange: -40Â°C to +105Â°C; Design comment: *; Height: 1.20000004768372; Manufacturer: ATMEL
footprint TQFP48 (SAMC21J18A-AUT)
pins: 1 PA00/XIN32 (io), 2 PA01/XOUT32 (io), 3 PA02 (io), 4 PA03 (io), 5 GNDANA (power), 6 VDDANA (power), 7 PB08 (io), 8 PB09 (io), 9 PA04 (io), 10 PA05 (io), 11 PA06 (io), 12 PA07 (io), 13 PA08 (io), 14 PA09 (io), 15 PA10 (io), 16 PA11 (io), 17 VDDIO (power), 18 GND (power), 19 PB10 (io), 20 PB11 (io), 21 PA12 (io), 22 PA13 (io), 23 PA14 (io), 24 PA15 (io), 25 PA16 (io), 26 PA17 (io), 27 PA18 (io), 28 PA19 (io), 29 PA20 (io), 30 PA21 (io), 31 PA22 (io), 32 PA23 (io), 33 PA24 (io), 34 PA25 (io), 35 GND (power), 36 VDDIO (power), 37 PB22 (io), 38 PB23 (io), 39 PA27 (io), 40 ~{RESETN} (in), 41 PA28 (io), 42 GND (power), 43 VDDCORE (power), 44 VDDIN (power), 45 SWCLK/PA30 (io), 46 SWDIO/PA31 (io), 47 PB02 (io), 48 PB03 (io)

## SAMC21J_TQFP64
designator U?  value SAMC21J18A-AUT  (hidden comment: SAMC21J_TQFP64)
Atmel 32-bit RISC MCU 64pin; PartGroup: Integrated Circuits,MCU, MPU, DSP,ARM MCU; AN: A06-1192; TemperatureRange: -40Â°C to +105Â°C; Design comment: *; Height: 1.20000004768372; Manufacturer: ATMEL; MPN: SAMC21J18A-AUT
footprint AP6-00173
pins: 1 PA00/XIN32 (io), 2 PA01/XOUT32 (io), 3 PA02 (io), 4 PA03 (io), 5 PB04 (io), 6 PB05 (io), 7 GNDANA (power), 8 VDDANA (power), 9 PB06 (io), 10 PB07 (io), 11 PB08 (io), 12 PB09 (io), 13 PA04 (io), 14 PA05 (io), 15 PA06 (io), 16 PA07 (io), 17 PA08 (io), 18 PA09 (io), 19 PA10 (io), 20 PA11 (io), 21 VDDIO (power), 22 GND (power), 23 PB10 (io), 24 PB11 (io), 25 PB12 (io), 26 PB13 (io), 27 PB14 (io), 28 PB15 (io), 29 PA12 (io), 30 PA13 (io), 31 PA14 (io), 32 PA15 (io), 33 GND (power), 34 VDDIO (power), 35 PA16 (io), 36 PA17 (io), 37 PA18 (io), 38 PA19 (io), 39 PB16 (io), 40 PB17 (io), 41 PA20 (io), 42 PA21 (io), 43 PA22 (io), 44 PA23 (io), 45 PA24 (io), 46 PA25 (io), 47 GND (power), 48 VDDIO (power), 49 PB22 (io), 50 PB23 (io), 51 PA27 (io), 52 ~{RESETN} (in), 53 PA28 (io), 54 GND (power), 55 VDDCORE (power), 56 VDDIN (power), 57 SWCLK/PA30 (io), 58 SWDIO/PA31 (io), 59 PB30 (io), 60 PB31 (io), 61 PB00 (io), 62 PB01 (io), 63 PB02 (io), 64 PB03 (io)

## Teensy4.1
designator *
footprint Teensy_4.1
pins: 0 CRX2, 1 CTX2, 2, 3, 3.3VO 3.3V, 3.3VU 3.3V, 4, 5, 6, 7, 8, 9, 10, 11, 12, 13, 14, 15, 16 SCL1, 17 SDA1, 18 SDA, 19 SCL, 20, 21, 22 CTX1, 23 CRX1, 24 SCL2, 25 SDA2, 26, 27, 28, 29, 30 CRX3, 31 CTX3, 32, 33, 34, 35, 36, 37, 38, 39, 40, 41, BAT3.3V Bat3.3V, BATGND GND, EGND GND, GNDO GND, GNDU GND, LED, On/Off, Program, R+, R-, T+, T-, VBat, Vin

## XTAL 12Mhz
designator Y?
Crystal Oscillator; Published: 8-Jun-2000; LatestRevisionDate: 17-Jul-2002; LatestRevisionNote: Re-released for DXP Platform.; PackageReference: R38; Publisher: Altium Limited; PackageDescription: Crystal, Thru-Hole; 2 Leads; Body 3.1 x 8.2 mm (Dia.xH); OC_FARNELL: 2064022; Supplier 1: Farnell; Supplier Part Number 1: 2064022
simulation model XTAL (Spice Subcircuit)
footprint XTAL SMD
pins: 1 OSC1, 3 OSC2

## XTAL 14.7456 MHz
designator Y?
Crystal Oscillator; Published: 8-Jun-2000; LatestRevisionDate: 17-Jul-2002; LatestRevisionNote: Re-released for DXP Platform.; PackageReference: R38; Publisher: Altium Limited; PackageDescription: Crystal, Thru-Hole; 2 Leads; Body 3.1 x 8.2 mm (Dia.xH); OC_FARNELL: 1841975; Supplier 1: Farnell; Supplier Part Number 1: 1841975
simulation model XTAL (Spice Subcircuit)
footprint XTAL SMD
pins: 1 OSC1, 3 OSC2

## XTAL 16Mhz
designator Y?
Crystal Oscillator; Published: 8-Jun-2000; LatestRevisionDate: 17-Jul-2002; LatestRevisionNote: Re-released for DXP Platform.; PackageReference: R38; Publisher: Altium Limited; PackageDescription: Crystal, Thru-Hole; 2 Leads; Body 3.1 x 8.2 mm (Dia.xH); OC_FARNELL: 1841977; Supplier 1: Farnell; Supplier Part Number 1: 1841977
simulation model XTAL (Spice Subcircuit)
footprint XTAL SMD
pins: 1 OSC1, 3 OSC2

## XTAL 32.768kHz
designator Y?
Crystal Oscillator; Published: 8-Jun-2000; LatestRevisionDate: 17-Jul-2002; LatestRevisionNote: Re-released for DXP Platform.; PackageReference: R38; Publisher: Altium Limited; PackageDescription: Crystal, Thru-Hole; 2 Leads; Body 3.1 x 8.2 mm (Dia.xH); OC_FARNELL: 2101351; Supplier 1: Farnell; Supplier Part Number 1: 2101351
simulation model XTAL (Spice Subcircuit)
footprint XTAL SMD 2 (Quartz Crystal, SM; Body 6.2 x 3.7 mm (LxW max))
pins: 1 OSC1, 2 OSC2